# Altium schematic symbol library aiskylab-14Connectors-16D-SubCon.SchLib: 2 symbols
Pins are listed as number, name and electrical type; pins without a type are passive.

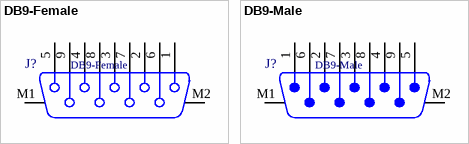
[diagram p0: symbols DB9-Female to DB9-Male]

## DB9-Female
designator J?
Female PCB Connector with Hex Screw WR-DSUB, 8.08 mm, Angled, 9 pins; Manufacturer: Wurth Elektronik; Part Number: 618009231121; Contact Resistance: 30mOhm; Pin Number: 9; Working Voltage: 125VAC; Rated Current: 3A; Gender: Female; Datasheet URL: https://katalog.we-online.de/em/datasheet/6180xx231121.pdf; Packaging: Tray; Package Reference: 618009231121; Operating Temperature: -40to85degC; Manufacturer URL: http://www.we-online.de; Publisher: WurthElektronik; Mounting Technology: THT; Orientation: Angled
footprint 618009231121 (9 pins, right angled, 8.08mm, with hex screw)
footprint AMPHENOL_L717DFE09S1ATN (Right Angled D-Sub 9 Female Contacts with Metal Bracket and Front Female Screwlock (UNC4-40))
pins: 1, 2, 3, 4, 5, 6, 7, 8, 9, M1, M2

## DB9-Male
designator J?
Male PCB Connector with Hex Screw WR-DSUB, 10.30 mm, Angled, 9 pins; Part Number: 618009231421; Manufacturer: Wurth Elektronik; Pin Number: 9; Rated Current: 3A; Working Voltage: 125VAC; Contact Resistance: 30mOhm; Publisher: WurthElektronik; Datasheet URL: https://katalog.we-online.de/em/datasheet/6180xx231421.pdf; Operating Temperature: -40to85degC; Mounting Technology: THT; Package Reference: 618009231421; Manufacturer URL: http://www.we-online.de; Gender: Male; Orientation: Angled; Packaging: Tray
footprint 618009231421 (9 pins, right angled, 10.3mm, with hex screw)
footprint AMPHENOL_L717DFE09P1ATN (Right Angled D-Sub 9 Male Contacts with Metal Bracket and Front Female Screwlock (UNC4-40))
pins: 1, 2, 3, 4, 5, 6, 7, 8, 9, M1, M2